# Altium footprint library XAL6030.PcbLib: 1 footprints
Each footprint in its own frame and in the unit in brackets; x right, y up, seen from the top. Pads: shape width x height; smd on the part's side, far side on the other; paste and mask are expansions set on the pad; w line width, h text height; cw(c..) or ccw(c..) is an arc to the next point about the centre after c.
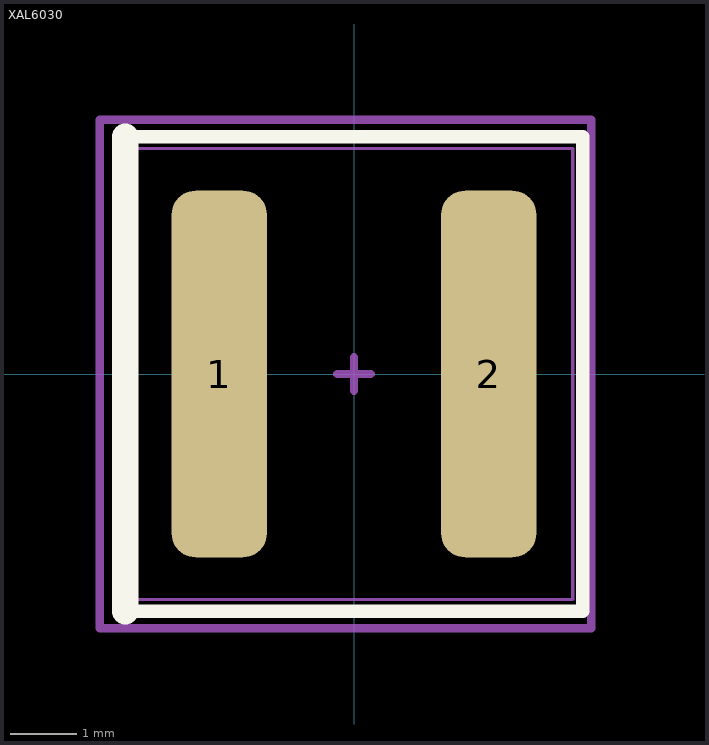
[diagram p0: the footprint, top view; thin cyan lines are the x and y axes]

## XAL6030 [mm]
pads (2):
  rrect50% 1.43x5.5 smd mask+0.07: 1(-2.02,0) 2(2.02,0)
Top Overlay:
  lines w0.2: -3.429,-3.556 3.429,-3.556 3.429,3.556 -3.429,3.556
  lines w0.4: -3.429,-3.556 -3.429,3.556
Mechanical 13:
  lines w0.051: -3.302,-3.38 -3.302,3.38 3.28,3.38 3.28,-3.38 -3.302,-3.38
Mechanical 15:
  lines w0.127: -0.254,0 0.254,0 ; 0,-0.254 0,0.254 ; -3.81,-3.81 -3.81,3.81 3.556,3.81 3.556,-3.81 -3.81,-3.81
Mechanical 17:
  text "'.Designator'" at -2.413,-0.127 h0.4
3D body "Coilcraft-XAL6030.step": height 3, standoff -0.1, extent -3.28,-3.38 3.28,3.38